# Altium schematic symbol library Schlib05_08.SchLib: 5 symbols
Pins are listed as number, name and electrical type; pins without a type are passive.

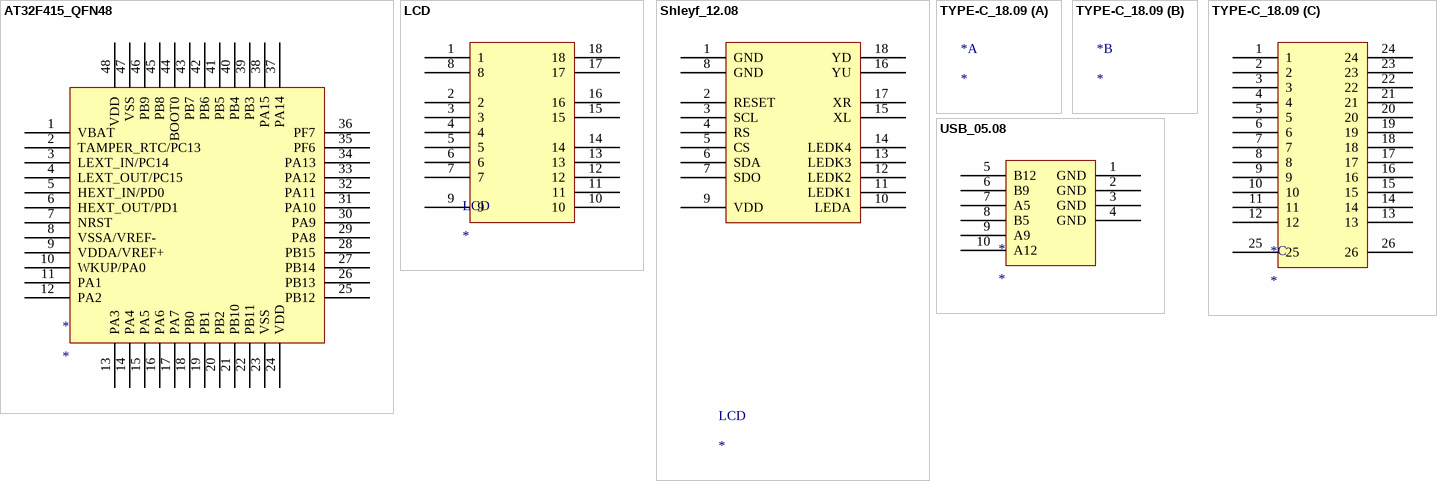
[diagram p0: symbols AT32F415_QFN48 to USB_05.08]

## AT32F415_QFN48
designator *
pins: 1 VBAT, 2 TAMPER_RTC/PC13, 3 LEXT_IN/PC14, 4 LEXT_OUT/PC15, 5 HEXT_IN/PD0, 6 HEXT_OUT/PD1, 7 NRST, 8 VSSA/VREF-, 9 VDDA/VREF+, 10 WKUP/PA0, 11 PA1, 12 PA2, 13 PA3, 14 PA4, 15 PA5, 16 PA6, 17 PA7, 18 PB0, 19 PB1, 20 PB2, 21 PB10, 22 PB11, 23 VSS, 24 VDD, 25 PB12, 26 PB13, 27 PB14, 28 PB15, 29 PA8, 30 PA9, 31 PA10, 32 PA11, 33 PA12, 34 PA13, 35 PF6, 36 PF7, 37 PA14, 38 PA15, 39 PB3, 40 PB4, 41 PB5, 42 PB6, 43 PB7, 44 BOOT0, 45 PB8, 46 PB9, 47 VSS, 48 VDD

## LCD
designator LCD
pins: 1, 2, 3, 4, 5, 6, 7, 8, 9, 10, 11, 12, 13, 14, 15, 16, 17, 18

## Shleyf_12.08
designator LCD  (graphical)
pins: 1 GND, 2 RESET, 3 SCL, 4 RS, 5 CS, 6 SDA, 7 SDO, 8 GND, 9 VDD, 10 LEDA, 11 LEDK1, 12 LEDK2, 13 LEDK3, 14 LEDK4, 15 XL, 16 YU, 17 XR, 18 YD

## TYPE-C_18.09
designator *
part C pins: 1, 2, 3, 4, 5, 6, 7, 8, 9, 10, 11, 12, 13, 14, 15, 16, 17, 18, 19, 20, 21, 22, 23, 24, 25, 26

## USB_05.08
designator *
pins: 1 GND, 2 GND, 3 GND, 4 GND, 5 B12, 6 B9, 7 A5, 8 B5, 9 A9, 10 A12